# Altium schematic symbol library Battery.SchLib: 3 symbols
Pins are listed as number, name and electrical type; pins without a type are passive.

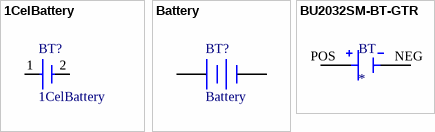
[diagram p0: symbols 1CelBattery to BU2032SM-BT-GTR]

## 1CelBattery
designator BT?
Published: 24-Mar-1999; LatestRevisionDate: 17-Jul-2002; LatestRevisionNote: Re-released for DXP Platform.; PackageReference: BAT-2; Publisher: Altium Limited; PackageDescription: Battery; 2 Leads
pins: 1 +, 2 -

## Battery
designator BT?
Multicell Battery; Published: 24-Mar-1999; LatestRevisionDate: 17-Jul-2002; LatestRevisionNote: Re-released for DXP Platform.; PackageReference: BAT-2; Publisher: Altium Limited; PackageDescription: Battery; 2 Leads
footprint BAT-2 (Battery; 2 Leads)
pins: 1 +, 2 -

## BU2032SM-BT-GTR
designator BT
BATTERY HOLDER COIN 20MM SMD; MF: MPD _Memory; MP: BU2032SM-BT-GTR; Digi-Key_Purchase_URL: https://www.digikey.com.au/product-detail/en/mpd-memory-protection-devices/BU2032SM-BT-GTR/BU2032SM-BT-GCT-ND/3628531?utm_source=snapeda&utm_medium=aggregator&utm_campaign=symbol; Digi-Key_Part_Number: BU2032SM-BT-GCT-ND; SnapEDA_Link: https://www.snapeda.com/parts/BU2032SM-BT-GTR/MPD%20%28Memory%20Protection%20Devices%29/view-part/4219643/?ref=snap; Package: None; Value: *
footprint BAT_BU2032SM-BT-GTR
pins: NEG, POS